# EAGLE library part LTC4415 (library tagps)
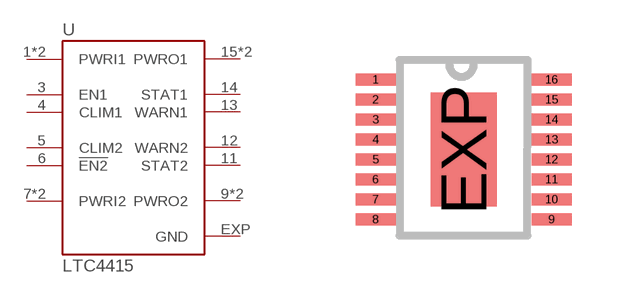
[diagram p3: symbol with the pads of MSOP16; footprint MSOP16]

Designator prefix -

## LTC4415  [MSOP16]
1  PWRI1  pwr
2  PWRI1  pwr
3  EN1  in
4  CLIM1
5  CLIM2
6  !EN2  in
7  PWRI2  pwr
8  PWRI2  pwr
9  PWRO2  pwr
10  PWRO2  pwr
11  STAT2
12  WARN2
13  WARN1
14  STAT1
15  PWRO1  pwr
16  PWRO1  pwr
EXP  GND  pwr

## Footprint MSOP16 (pad centres in mm)
MSE Package 12-Lead Plastic MSOP Exposed Die Pad (Reference LTC DWG # 05-08-1666 Rev D) Source: http://cds.linear.com/docs/en/datasheet/3645f.pdf Auto generated by make-symbol-device-package-bsdl.ulp Rev. 44
smd 1 x 0.3: 1 -2.2,1.75; 2 -2.2,1.25; 3 -2.2,0.75; 4 -2.2,0.25; 5 -2.2,-0.25; 6 -2.2,-0.75; 7 -2.2,-1.25; 8 -2.2,-1.75; 9 2.2,-1.75; 10 2.2,-1.25; 11 2.2,-0.75; 12 2.2,-0.25; 13 2.2,0.25; 14 2.2,0.75; 15 2.2,1.25; 16 2.2,1.75
smd 1.65 x 2.85: EXP 0,0